# Altium footprint library DT13-08PB.PcbLib: 1 footprints
Each footprint in its own frame and in the unit in brackets; x right, y up, seen from the top. Pads: shape width x height; smd on the part's side, far side on the other; paste and mask are expansions set on the pad; w line width, h text height; cw(c..) or ccw(c..) is an arc to the next point about the centre after c.
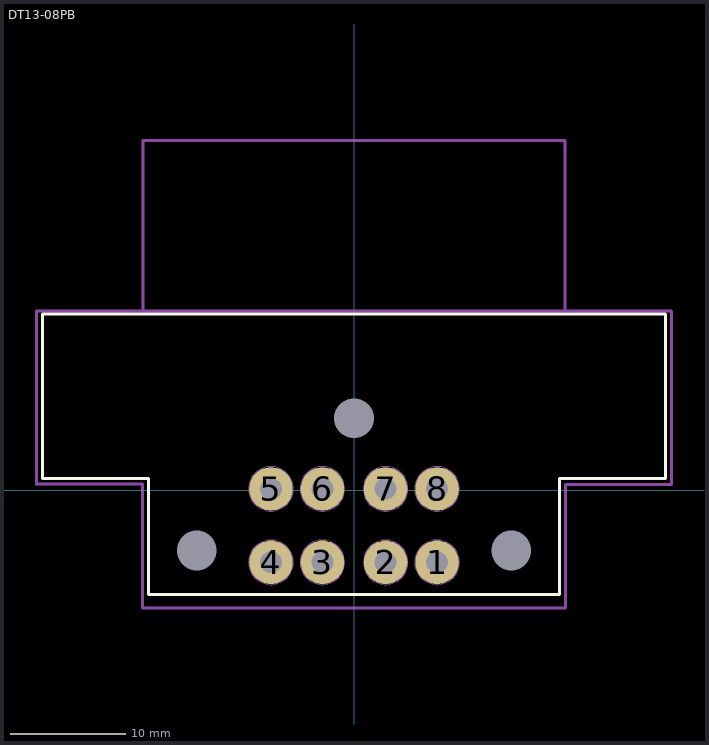
[diagram p0: the footprint, top view; thin cyan lines are the x and y axes]

## DT13-08PB [mm]
pads (11):
  round 3.76 hole 1.88: 1(7.175,-6.225) 2(2.73,-6.225) 3(-2.73,-6.225) 4(-7.175,-6.225) 5(-7.175,0.125) 6(-2.73,0.125) 7(2.73,0.125) 8(7.175,0.125)
  round 1.524 hole 3.43 unplated: ""(-13.59,-5.205) ""(0,6.225) ""(13.59,-5.205)
Top Overlay:
  lines w0.254: -17.78,1.016 -17.78,-9.016 17.78,-9.016 17.78,1.016
  lines w0.256: -17.78,1.016 -23.368,1.016 -26.924,1.016 -26.924,15.24 26.924,15.24 26.924,1.016 17.78,1.016
Mechanical 3:
  lines w0.254: -27.432,0.508 -27.45,0.526 ; -18.225,15.557 -18.225,30.224 18.225,30.224 18.225,15.557 ; -27.45,0.526 -18.27,0.526 -18.288,0.508 -18.288,-10.16 18.288,-10.16 18.288,0.508 27.432,0.508 27.45,0.526 27.45,15.494 -27.45,15.494 -27.45,0.526
Mechanical 5:
  circle w0.01: c-7.175,-6.225 r1.923
  circle w0.01: c-2.73,-6.225 r1.923
  circle w0.01: c2.73,-6.225 r1.923
  circle w0.01: c7.175,-6.225 r1.923
  circle w0.01: c7.175,0.125 r1.923
  circle w0.01: c2.73,0.125 r1.923
  circle w0.01: c-2.73,0.125 r1.923
  circle w0.01: c-7.175,0.125 r1.923
Mechanical 7:
  lines w0.1: -18.3,-10.1 -18.3,0.5 -27.5,0.5 -27.5,15.5 -18.3,15.5 -18.3,30.3 18.3,30.3 18.3,15.5 27.5,15.5 27.5,0.5 18.3,0.5 18.3,-10.2 -18.3,-10.2 -18.3,-10
Mechanical 9:
  text "'.Designator'" at -9.144,12.192 h1.52
3D body "c-dt13-08pb-99-3d.stp": height 36.13, standoff -2.45, extent -27.559,-9.144 27.559,30.099
3D body: height 1, standoff 0, extent -27.5,-10.2 27.5,30.3